# Altium footprint library SebVLibr.PcbLib: 85 footprints (part 1 of 6)
Each footprint in its own frame and in the unit in brackets; x right, y up, seen from the top. Pads: shape width x height; smd on the part's side, far side on the other; paste and mask are expansions set on the pad; w line width, h text height; cw(c..) or ccw(c..) is an arc to the next point about the centre after c.
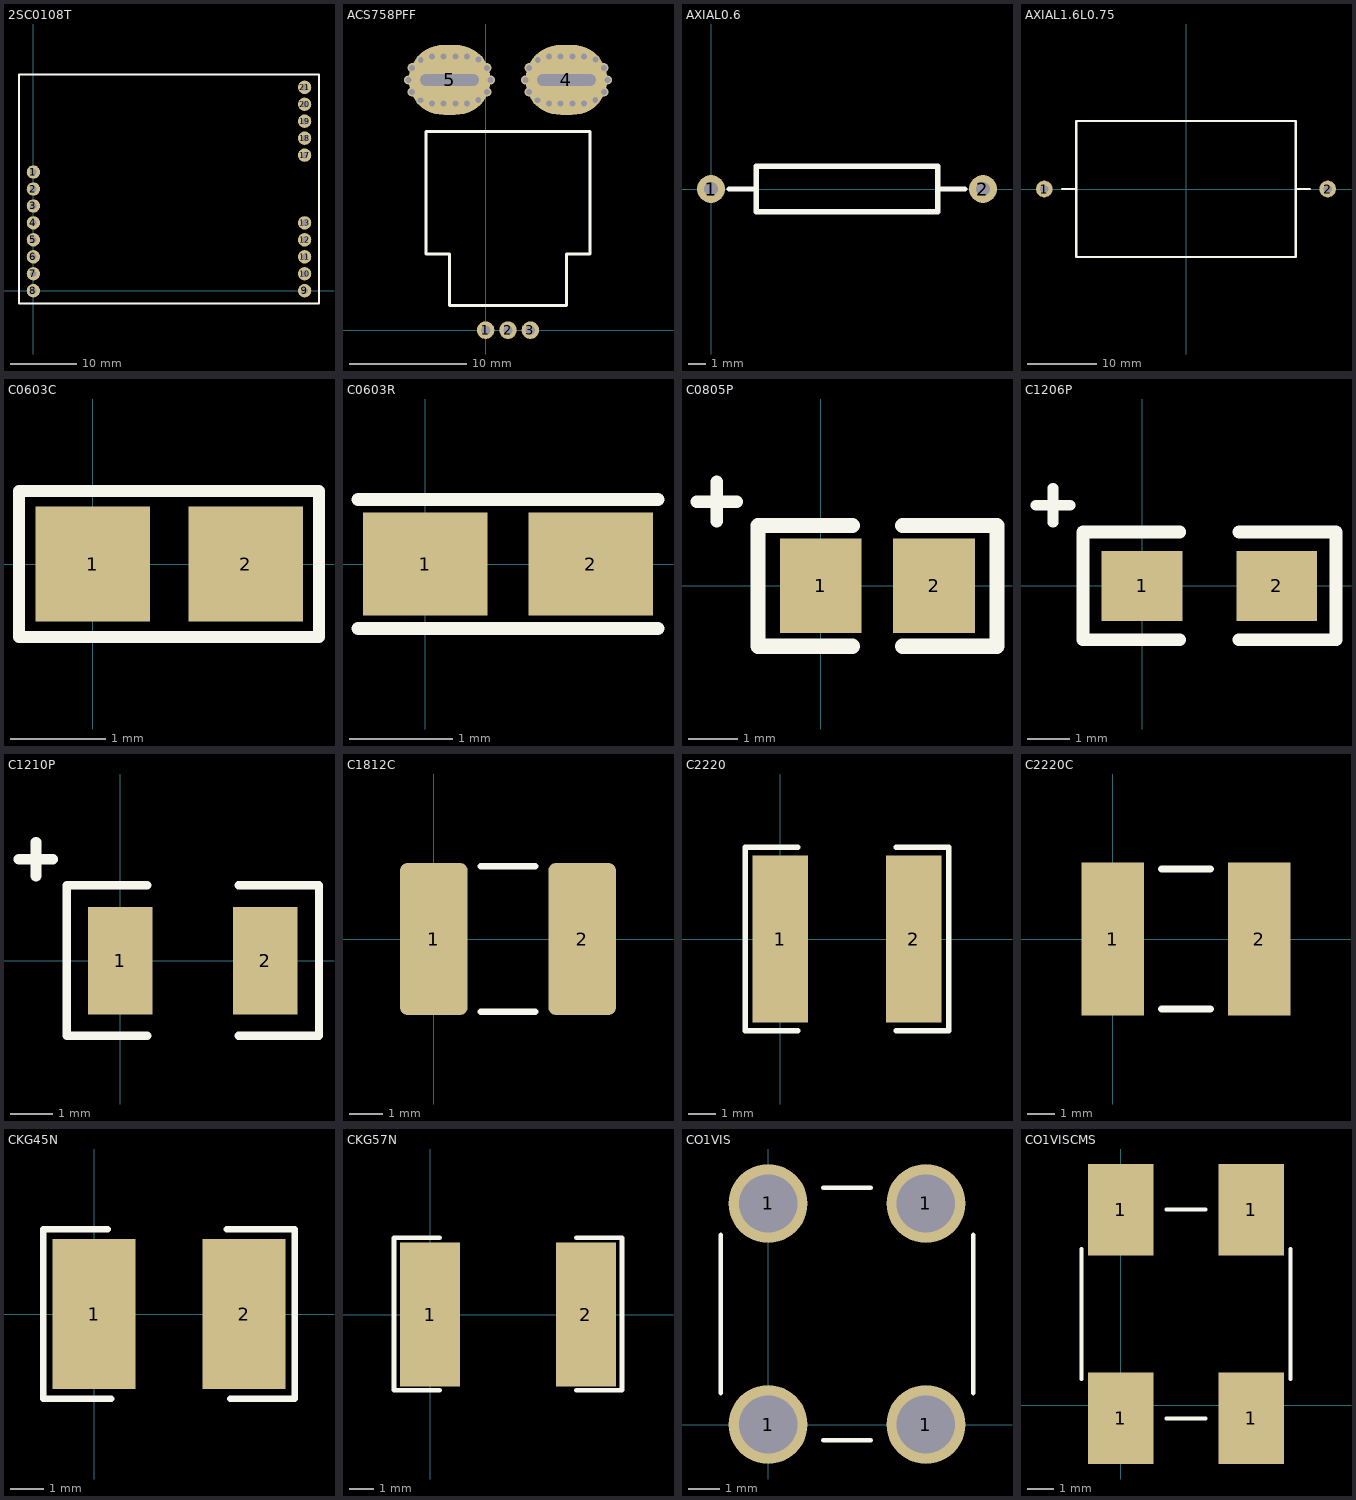
[diagram p0: the footprints below, top view; thin cyan lines are the x and y axes]

## 2SC0108T [mm] "Drivers concept"
height 16.002
pads (18):
  round 2 hole 1: 1(0,17.78) 2(0,15.24) 3(0,12.7) 4(0,10.16) 5(0,7.62) 6(0,5.08) 7(0,2.54) 8(0,0) 9(40.64,0) 10(40.64,2.54) 11(40.64,5.08) 12(40.64,7.62) 13(40.64,10.16) 17(40.64,20.32) 18(40.64,22.86) 19(40.64,25.4) 20(40.64,27.94) 21(40.64,30.48)
Top Overlay:
  lines w0.254: -2.159,-1.905 42.799,-1.905 42.799,32.385 -2.159,32.385 -2.159,-1.905

## ACS758PFF [mm]
pads (5):
  round 1.5 hole 0.8: 1(0,0) 2(1.91,0) 3(3.82,0)
  rrect100% 7x6 hole 1 slot 5 at 0 deg: 4(6.91,21.4) 5(-3.09,21.4)
via 5.41,19.4 diameter 0.8 hole 0.5
via 6.41,19.4 diameter 0.8 hole 0.5
via 7.41,19.4 diameter 0.8 hole 0.5
via 8.41,19.4 diameter 0.8 hole 0.5
via 8.41,23.4 diameter 0.8 hole 0.5
via 7.41,23.4 diameter 0.8 hole 0.5
via 6.41,23.4 diameter 0.8 hole 0.5
via 5.41,23.4 diameter 0.8 hole 0.5
via 4.45,23.116 diameter 0.8 hole 0.5
via 3.714,22.43 diameter 0.8 hole 0.5
via 4.425,19.662 diameter 0.8 hole 0.5
via 3.714,20.373 diameter 0.8 hole 0.5
via 3.41,21.4 diameter 0.8 hole 0.5
via 10.41,21.4 diameter 0.8 hole 0.5
via 10.106,22.427 diameter 0.8 hole 0.5
via 9.395,23.138 diameter 0.8 hole 0.5
via 10.106,20.37 diameter 0.8 hole 0.5
via 9.37,19.684 diameter 0.8 hole 0.5
via -4.59,19.4 diameter 0.8 hole 0.5
via -3.59,19.4 diameter 0.8 hole 0.5
via -2.59,19.4 diameter 0.8 hole 0.5
via -1.59,19.4 diameter 0.8 hole 0.5
via -1.59,23.4 diameter 0.8 hole 0.5
via -2.59,23.4 diameter 0.8 hole 0.5
via -3.59,23.4 diameter 0.8 hole 0.5
via -4.59,23.4 diameter 0.8 hole 0.5
via -5.55,23.116 diameter 0.8 hole 0.5
via -6.286,22.43 diameter 0.8 hole 0.5
via -5.575,19.662 diameter 0.8 hole 0.5
via -6.286,20.373 diameter 0.8 hole 0.5
via -6.59,21.4 diameter 0.8 hole 0.5
via 0.41,21.4 diameter 0.8 hole 0.5
via 0.106,22.427 diameter 0.8 hole 0.5
via -0.605,23.138 diameter 0.8 hole 0.5
via 0.106,20.37 diameter 0.8 hole 0.5
via -0.63,19.684 diameter 0.8 hole 0.5
Top Overlay:
  lines w0.254: -5.09,6.5 -5.09,17 8.91,17 8.91,6.5 6.91,6.5 6.91,2.1 -3.09,2.1 -3.09,6.5 -5.09,6.5
Multi-Layer:
  region: 8.91,18.4 2.91,18.4 2.91,24.4 8.91,24.4
  region: -5.09,24.4 0.91,24.4 0.91,18.4 -5.09,18.4
  lines w2: -5.09,19.4 cw(c-5.09,21.4) -5.09,23.4 ; 8.91,19.4 ccw(c8.91,21.4) 8.91,23.4
3D body: height 7, standoff -3.51, extent -5.019,-0.573 8.981,22.249

## AXIAL0.6 [mil]
pads (2):
  round 62 hole 31.5: 1(0,0) 2(600,0)
Top Overlay:
  lines w12: 40,0 100,0 ; 500,0 560,0 ; 100,-50 100,50 500,50 500,-50 100,-50

## AXIAL1.6L0.75 [mm]
pads (2):
  round 2.4 hole 1.2: 1(-20.32,0) 2(20.32,0)
Top Overlay:
  lines w0.305: -17.78,0 -15.75,0 ; 15.75,0 17.78,0 ; -15.75,-9.75 15.75,-9.75 15.75,9.75 -15.75,9.75 -15.75,-9.75

## C0603C [mm]
height 0.8
pads (2):
  rect 1.2x1.2 smd: 1(0,0) 2(1.6,0)
Top Overlay:
  lines w0.125: -0.772,-0.762 -0.772,0.762 2.368,0.762 2.368,-0.762 -0.772,-0.762
3D body: height 0.3, standoff 0, extent 0,-0.4 1.6,0.4

## C0603R [mm]
height 0.45
pads (2):
  rect 1.2x1 smd: 1(0,0) 2(1.6,0)
Top Overlay:
  lines w0.125: -0.65,-0.625 2.25,-0.625 ; -0.65,0.625 2.25,0.625
3D body: height 0.45, standoff 0, extent 0,-0.41 1.6,0.41

## C0805P [mil]
pads (2):
  rect 65x75 smd: 1(0,0) 2(90,0)
Top Overlay:
  lines w10: -98.43,66.93 -66.93,66.93 ; -82.68,51.18 -82.68,82.68
  lines w12: 25,-48 -50,-48 -50,48 25,48 ; 65,-48 140,-48 140,48 65,48

## C1206P [mil]
pads (2):
  rect 75x65 smd: 1(0,0) 2(125,0)
Top Overlay:
  lines w10: -98.43,74.8 -66.93,74.8 ; -82.68,59.06 -82.68,90.55
  lines w12: 35,-50 -55,-50 -55,50 35,50 ; 90,-50 180,-50 180,50 90,50
3D body: height 39.45, standoff 0, extent 1.01,-31.49 127,31.5

## C1210P [mil]
pads (2):
  rect 60x100 smd: 1(0,0) 2(135,0)
Top Overlay:
  lines w7.87: 25,-70 -50,-70 -50,70 25,70 ; 110,-70 185,-70 185,70 110,70
  lines w10: -94.49,94.49 -62.99,94.49 ; -78.74,78.74 -78.74,110.24
3D body: height 98.43, standoff 0, extent 5.02,-49.21 131,49.22

## C1812C [mm]
pads (2):
  rrect20% 2x4.5 smd: 1(0,0) 2(4.4,0)
Top Overlay:
  lines w0.2: 1.4,-2.159 3,-2.159 ; 1.4,2.159 3,2.159
3D body: height 1.6, standoff 0, extent 0.036,-1.6 4.536,1.6

## C2220 [mm]
pads (2):
  rect 2x6 smd: 1(0,0) 2(4.8,0)
Top Overlay:
  lines w0.2: 0.635,-3.302 -1.27,-3.302 -1.27,3.302 0.635,3.302 ; 4.165,-3.302 6.07,-3.302 6.07,3.302 4.165,3.302

## C2220C [mil]
pads (2):
  rect 90x220 smd: 1(0,0) 2(210,0)
Top Overlay:
  lines w10: 70,-100 140,-100 ; 70,100 140,100

## CKG45N [mm]
height 5.5
pads (2):
  rect 2.5x4.5 smd: 1(0,0) 2(4.5,0)
Top Overlay:
  lines w0.2: 0.406,2.54 -1.524,2.54 -1.524,-2.54 0.508,-2.54 ; 3.992,2.54 6.024,2.54 6.024,-2.54 4.094,-2.54

## CKG57N [mm]
height 5.5
pads (2):
  rect 2.5x6 smd: 1(0,0) 2(6.5,0)
Top Overlay:
  lines w0.2: 0.406,-3.15 -1.499,-3.15 -1.499,3.2 0.406,3.2 ; 6.094,-3.15 7.999,-3.15 7.999,3.2 6.094,3.2

## CO1VIS [mm] "connecteur a viser surelevé rs 614-2431"
pads (4):
  round 2.5 hole 1.85: 1(0,0) 1(0,7) 1(5,0) 1(5,7)
Top Overlay:
  lines w0.15: -1.5,1 -1.5,6 ; 1.75,-0.5 3.25,-0.5 ; 1.75,7.5 3.25,7.5 ; 6.5,1 6.5,6

## CO1VISCMS [mm] "connecteur a viser surelevé rs 614-2431"
pads (4):
  rect 2.5x3.5 smd: 1(0,-0.5) 1(0,7.5) 1(5,-0.5) 1(5,7.5)
Top Overlay:
  lines w0.15: -1.5,1 -1.5,6 ; 1.75,-0.5 3.25,-0.5 ; 1.75,7.5 3.25,7.5 ; 6.5,1 6.5,6